# Altium schematic symbol library PE-53914NL.Schlib: 1 symbol
Pins are listed as number, name and electrical type; pins without a type are passive.

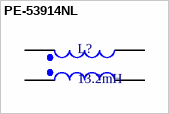
[diagram p0: symbol PE-53914NL]

## PE-53914NL
designator L?, comment 13.2mH
Commen mode choke
pins: 1, 2, 3, 4